# EAGLE library part LTC2991 (library Simplex-ICs)
Linear Technology LTC2991 octal i2c voltage, current and temperature monitor
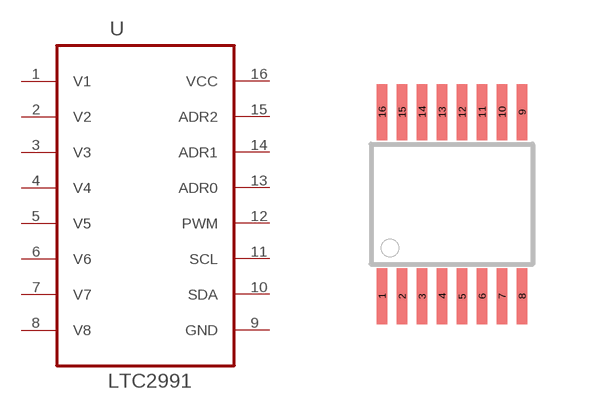
[diagram p1: symbol with the pads of MSOP_16P; footprint MSOP_16P]

Designator prefix -

## LTC2991  [MSOP_16P]
1  V1  in
2  V2  in
3  V3  in
4  V4  in
5  V5  in
6  V6  in
7  V7  in
8  V8  in
9  GND  pas
10  SDA
11  SCL  in
12  PWM  out
13  ADR0  in
14  ADR1  in
15  ADR2  in
16  VCC  pwr

## Footprint MSOP_16P (pad centres in mm)
smd 0.27 x 1.4: 1 0,-4.6; 2 0.5,-4.6; 3 1,-4.6; 4 1.5,-4.6; 5 2,-4.6; 6 2.5,-4.6; 7 3,-4.6; 8 3.5,-4.6; 9 3.5,0; 10 3,0; 11 2.5,0; 12 2,0; 13 1.5,0; 14 1,0; 15 0.5,0; 16 0,0